# EAGLE library part MC74LCX08DG (library maholli)
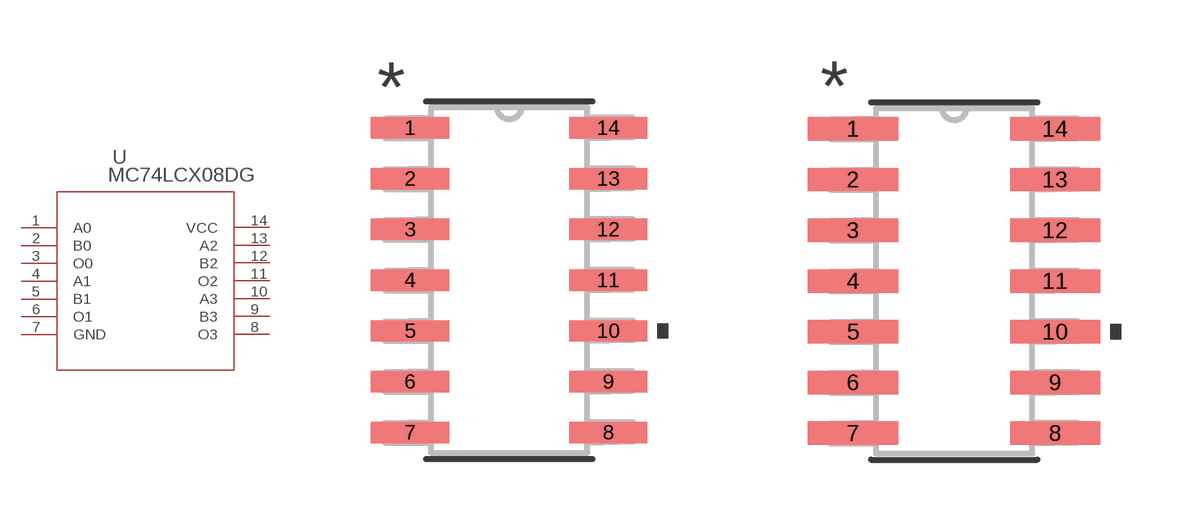
[diagram p2: symbol with the pads of SOIC-14_NB; footprints SOIC-14_NB, SOIC-14_NB-M]

Designator prefix U

## MC74LCX08DG (MANUFACTURER_PART_NUMBER: MC74LCX08DG; VENDOR: ON Semiconductor)  [SOIC-14_NB]
1  A0  in
2  B0  in
3  O0  out
4  A1  in
5  B1  in
6  O1  out
7  GND  pwr
8  O3  out
9  B3  in
10  A3  in
11  O2  out
12  B2  in
13  A2  in
14  VCC  pwr

## MC74LCX08DGSOIC-14_NB-M (MANUFACTURER_PART_NUMBER: MC74LCX08DG; VENDOR: ON Semiconductor)  [SOIC-14_NB-M]
Pads as for SOIC-14_NB

## MC74LCX08DGSOIC-14_NB-L (MANUFACTURER_PART_NUMBER: MC74LCX08DG; VENDOR: ON Semiconductor)  [SOIC-14_NB-L]
Pads as for SOIC-14_NB

## Footprint SOIC-14_NB (pad centres in mm)
smd 1.956 x 0.533: 1 -2.477,3.81; 2 -2.477,2.54; 3 -2.477,1.27; 4 -2.477,0; 5 -2.477,-1.27; 6 -2.477,-2.54; 7 -2.477,-3.81; 8 2.477,-3.81; 9 2.477,-2.54; 10 2.477,-1.27; 11 2.477,0; 12 2.477,1.27; 13 2.477,2.54; 14 2.477,3.81

## Footprint SOIC-14_NB-M (pad centres in mm)
smd 2.261 x 0.584: 1 -2.527,3.81; 2 -2.527,2.54; 3 -2.527,1.27; 4 -2.527,0; 5 -2.527,-1.27; 6 -2.527,-2.54; 7 -2.527,-3.81; 8 2.527,-3.81; 9 2.527,-2.54; 10 2.527,-1.27; 11 2.527,0; 12 2.527,1.27; 13 2.527,2.54; 14 2.527,3.81

## Footprint SOIC-14_NB-L (pad centres in mm)
smd 1.651 x 0.483: 1 -2.426,3.81; 2 -2.426,2.54; 3 -2.426,1.27; 4 -2.426,0; 5 -2.426,-1.27; 6 -2.426,-2.54; 7 -2.426,-3.81; 8 2.426,-3.81; 9 2.426,-2.54; 10 2.426,-1.27; 11 2.426,0; 12 2.426,1.27; 13 2.426,2.54; 14 2.426,3.81